# EAGLE library part 40X1PIN-2.54MM-FB-HEADER (library Itead-misc)
CON011
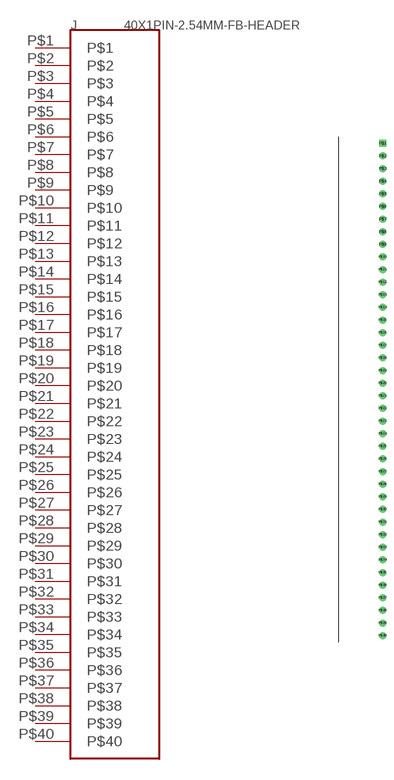
[diagram p11: symbol with the pads of 40X1-2.54MM-B; footprint 40X1-2.54MM-B]

Designator prefix J

## 40X1PIN-2.54MM-FB-HEADER  [40X1-2.54MM-B]
P$1  P$1
P$2  P$2
P$3  P$3
P$4  P$4
P$5  P$5
P$6  P$6
P$7  P$7
P$8  P$8
P$9  P$9
P$10  P$10
P$11  P$11
P$12  P$12
P$13  P$13
P$14  P$14
P$15  P$15
P$16  P$16
P$17  P$17
P$18  P$18
P$19  P$19
P$20  P$20
P$21  P$21
P$22  P$22
P$23  P$23
P$24  P$24
P$25  P$25
P$26  P$26
P$27  P$27
P$28  P$28
P$29  P$29
P$30  P$30
P$31  P$31
P$32  P$32
P$33  P$33
P$34  P$34
P$35  P$35
P$36  P$36
P$37  P$37
P$38  P$38
P$39  P$39
P$40  P$40

## Footprint 40X1-2.54MM-B (pad centres in mm)
drill 0.9 square: P$1 0,0
drill 0.9 round: P$2 0,-2.54; P$3 0,-5.08; P$4 0,-7.62; P$5 0,-10.16; P$6 0,-12.7; P$7 0,-15.24; P$8 0,-17.78; P$9 0,-20.32; P$10 0,-22.86; P$11 0,-25.4; P$12 0,-27.94; P$13 0,-30.48; P$14 0,-33.02; P$15 0,-35.56; P$16 0,-38.1; P$17 0,-40.64; P$18 0,-43.18; P$19 0,-45.72; P$20 0,-48.26; P$21 0,-50.8; P$22 0,-53.34; P$23 0,-55.88; P$24 0,-58.42; P$25 0,-60.96; P$26 0,-63.5; P$27 0,-66.04; P$28 0,-68.58; P$29 0,-71.12; P$30 0,-73.66; P$31 0,-76.2; P$32 0,-78.74; P$33 0,-81.28; P$34 0,-83.82; P$35 0,-86.36; P$36 0,-88.9; P$37 0,-91.44; P$38 0,-93.98; P$39 0,-96.52; P$40 0,-99.06